# EAGLE library part PSM8-0-0 (library switch-misc)
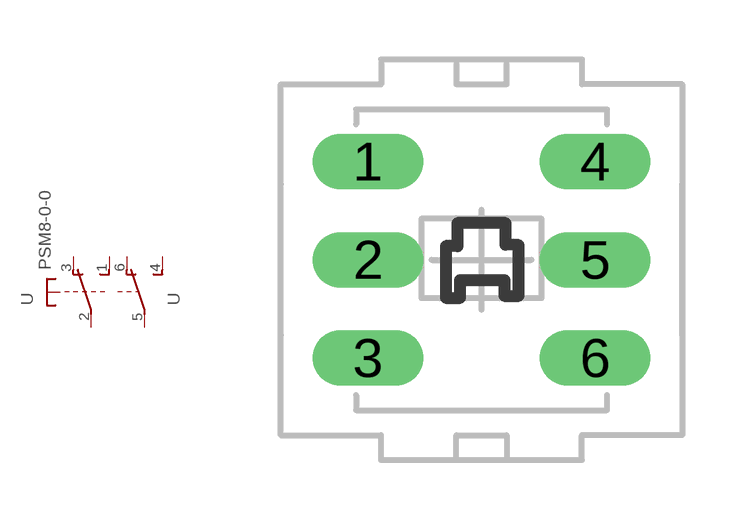
[diagram p10: symbol with the pads of PSM8-0-0+PSM1-0-0; footprint PSM8-0-0+PSM1-0-0]

Designator prefix -; gates G$1=TSU- G$2=U-2

## PSM8-0-0  [PSM8-0-0+PSM1-0-0]
1  G$1:S  pas
2  G$1:P  pas
3  G$1:O  pas
4  G$2:S  pas
5  G$2:P  pas
6  G$2:O  pas

## Footprint PSM8-0-0+PSM1-0-0 (pad centres in mm)
drill 0.9 long: 1 -2.872,2.489; 2 -2.872,0; 3 -2.872,-2.489; 4 2.872,2.489; 5 2.872,0; 6 2.872,-2.489